# Altium schematic symbol library PTN5110.SchLib: 1 symbol
Pins are listed as number, name and electrical type; pins without a type are passive.

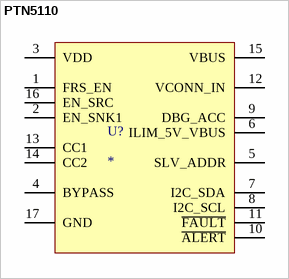
[diagram p0: symbol PTN5110]

## PTN5110
designator U?
pins: 1 FRS_EN, 2 EN_SNK1, 3 VDD, 4 BYPASS, 5 SLV_ADDR, 6 ILIM_5V_VBUS, 7 I2C_SDA, 8 I2C_SCL, 9 DBG_ACC, 10 ~{ALERT}, 11 ~{FAULT}, 12 VCONN_IN, 13 CC1, 14 CC2, 15 VBUS, 16 EN_SRC, 17 GND